# Altium schematic symbol library ESDS304.SchLib: 1 symbol
Pins are listed as number, name and electrical type; pins without a type are passive.

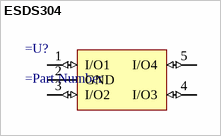
[diagram p0: symbol ESDS304]

## ESDS304
designator =U?
=Description
pins: 1 I/O1 (io), 2 GND (power), 3 I/O2 (io), 4 I/O3 (io), 5 I/O4 (io)